# EAGLE library part AUDIO_JACK_4_COND_2_SWITCH (library ERIC)
Audio Jack. 4 conductors plus 2 switches. This jack is appropriate for headphones with built in microphone.
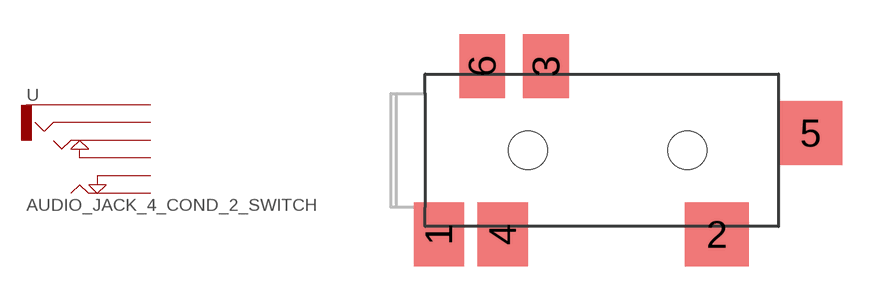
[diagram p31: symbol with the pads of AUDIO_JACK_3.5_CUI_SJ-4351X-SMT; footprint AUDIO_JACK_3.5_CUI_SJ-4351X-SMT]

Designator prefix -

## AUDIO_JACK_4_COND_2_SWITCH  [AUDIO_JACK_3.5_CUI_SJ-4351X-SMT]
1  SLEEVE
2  TIP
3  RING_1
4  RING_2
5  TIP_SWITCH
6  RING_SWITCH

## Footprint AUDIO_JACK_3.5_CUI_SJ-4351X-SMT (pad centres in mm)
SJ-4351X-SMT 3.5 MM AUDIO JACKS 4 conductors up to 2 switches
smd 2.2 x 2.8: 1 0.6,-3.7; 4 3.4,-3.7
smd 2.8 x 2.8: 2 12.8,-3.7; 5 16.9,0.75
smd 2 x 2.8: 3 5.3,3.7; 6 2.5,3.7
hole 1.7 at 4.5,0
hole 1.7 at 11.5,0